# Altium footprint library PCB - LEADED - SOP - LITEON SOP-16 OPTOCOUPLER.PcbLib: 1 footprints
Each footprint in its own frame and in the unit in brackets; x right, y up, seen from the top. Pads: shape width x height; smd on the part's side, far side on the other; paste and mask are expansions set on the pad; w line width, h text height; cw(c..) or ccw(c..) is an arc to the next point about the centre after c.
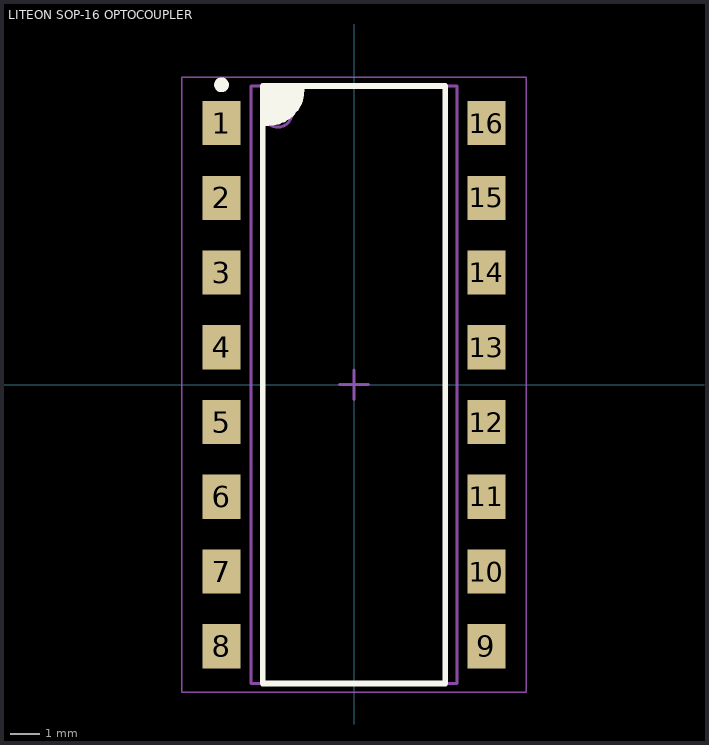
[diagram p0: the footprint, top view; thin cyan lines are the x and y axes]

## LITEON SOP-16 OPTOCOUPLER [mm] "SOP, 16-Leads, Body 19.84x6.50mm, Pitch 2.54mm, IPC Medium Density"
height 4.6
pads (16):
  rect 1.3x1.5 smd: 1(-4.5,8.89) 2(-4.5,6.35) 3(-4.5,3.81) 4(-4.5,1.27) 5(-4.5,-1.27) 6(-4.5,-3.81) 7(-4.5,-6.35) 8(-4.5,-8.89) 9(4.5,-8.89) 10(4.5,-6.35) 11(4.5,-3.81) 12(4.5,-1.27) 13(4.5,1.27) 14(4.5,3.81) 15(4.5,6.35) 16(4.5,8.89)
Top Overlay:
  circle w0.25: c-4.5,10.19 r0.125
  region: -3.1,10.15 -1.778,10.15 -1.778,10.033 -1.778,9.92 -1.822,9.7 -1.908,9.492 -2.033,9.304 -2.192,9.145 -2.38,9.02 -2.588,8.934 -2.808,8.89 -2.921,8.89 -3.048,8.89
  lines w0.2: -3.048,8.89 -2.921,8.89 ccw(c-2.921,10.033) -1.778,10.033 ; -3.1,-10.15 -3.1,10.15 3.1,10.15 3.1,-10.15 -3.1,-10.15
Top Assembly:
  circle w0.1: c-2.6,9.25 r0.5
  lines w0.1: -3.5,-10.15 -3.5,10.15 3.5,10.15 3.5,-10.15 -3.5,-10.15
Top Courtyard:
  lines w0.05: -5.85,-10.45 -5.85,10.45 5.85,10.45 5.85,-10.45 -5.85,-10.45
Top Component Center (Mech9):
  lines w0.1: -0.5,0 0.5,0 ; 0,-0.5 0,0.5
3D body "LITEON SOP-16 OPTOCOUPLER.step": height 4.6, standoff 0, extent -5.08,-10.15 5.08,10.15